# Altium schematic symbol library Lib Marius.SchLib: 259 symbols (part 3 of 3)
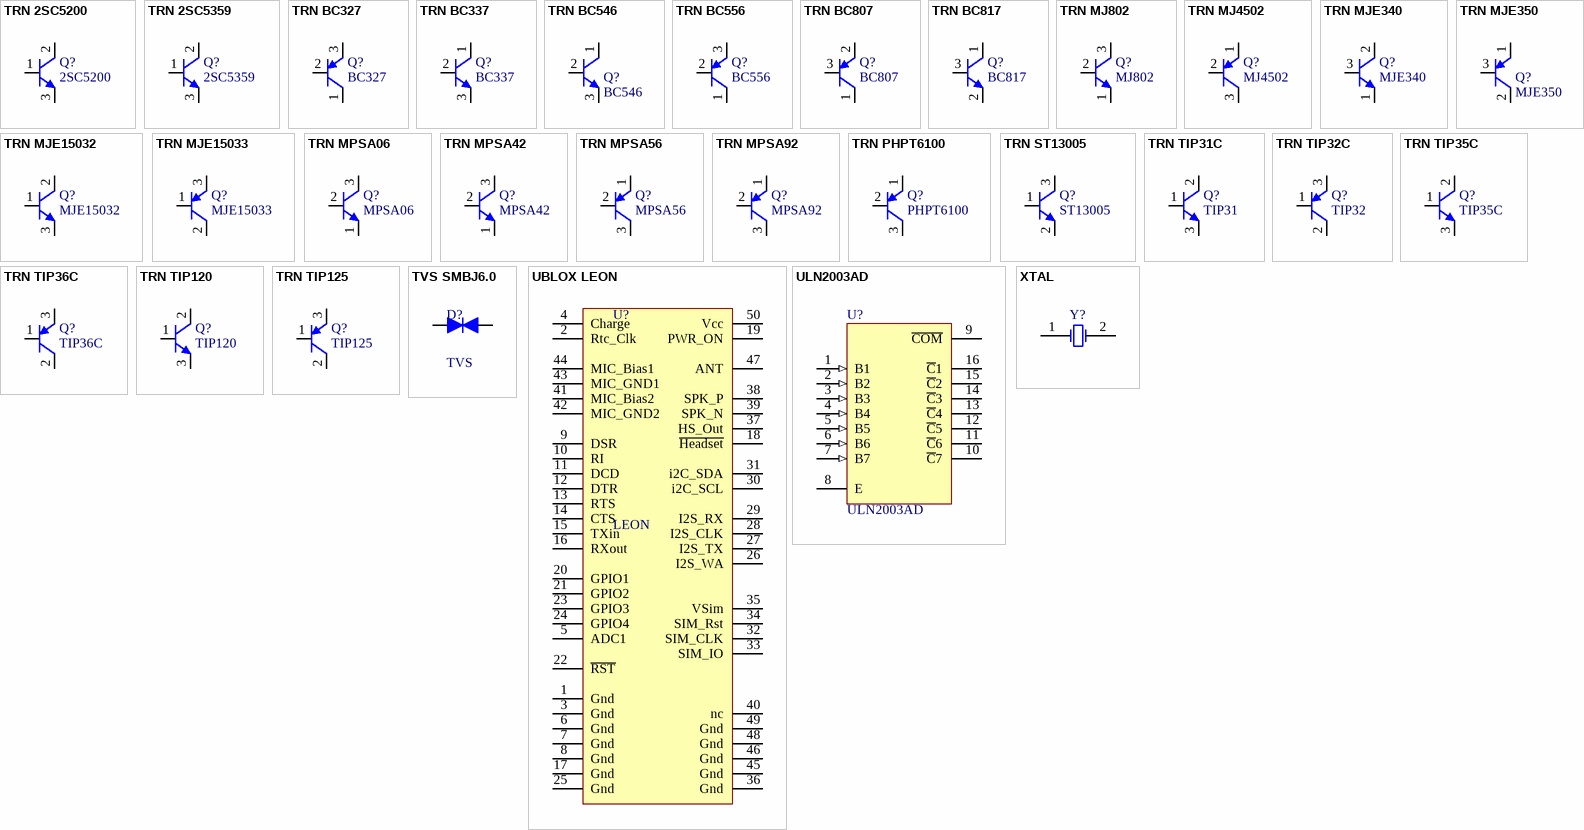
[diagram p8: symbols TRN 2SC5200 to XTAL]

## TRN MJ802
designator Q?, comment MJ802
NPN 100V 30A TO3; PackageReference: TO3; Fairchild: NPN 100V 30A; Supplier 1: Newark; Supplier Part Number 1: 46T9271
footprint TO3 HEATSINK (Oval Flange Mount with (2) Offset Leads; Pin Spacing 10.93 mm; Lead Dia. 1.09 mm (max))
footprint TO3 (Oval Flange Mount with (2) Offset Leads; Pin Spacing 10.93 mm; Lead Dia. 1.09 mm (max))
pins: 1 E, 2 B, 3 C

## TRN MJ4502
designator Q?, comment MJ4502
PNP 100V 30A TO3; PackageReference: TO3; Fairchild: PNP 100V 30A; Supplier 1: Newark; Supplier Part Number 1: 33C5072
footprint TO3 (Oval Flange Mount with (2) Offset Leads; Pin Spacing 10.93 mm; Lead Dia. 1.09 mm (max))
footprint TO3 HEATSINK (Oval Flange Mount with (2) Offset Leads; Pin Spacing 10.93 mm; Lead Dia. 1.09 mm (max))
pins: 1 E, 2 B, 3 C

## TRN MJE340
designator Q?, comment MJE340
NPN 300V 500mA TO126; PackageReference: TO 126; Fairchild: NPN 300V 500mA; Supplier 1: Digi-Key; Supplier Part Number 1: MJE340STU-ND
footprint TO 126 (TO, Thru-Hole, Vertical, Heatsink Mounted; 3 In-Line Leads; Pitch 2.54 mm)
pins: 1 E, 2 C, 3 B

## TRN MJE350
designator Q?, comment MJE350
PNP 300V 500mA TO126; PackageReference: TO 126; Fairchild: PNP 300V 500mA; Supplier 1: Digi-Key; Supplier Part Number 1: MJE350STU-ND
footprint TO 126 (TO, Thru-Hole, Vertical, Heatsink Mounted; 3 In-Line Leads; Pitch 2.54 mm)
pins: 1 E, 2 C, 3 B

## TRN MJE15032
designator Q?, comment MJE15032
NPN 220V 8A TO220; Fairchild: NPN 300V 500mA; PackageReference: TO 126; Supplier 1: Newark; Supplier Part Number 1: 45J1497
footprint TO 220 (TO, Thru-Hole, Vertical, Heatsink Mounted; 3 In-Line Leads; Pitch 2.54 mm)
pins: 1 B, 2 C, 3 E

## TRN MJE15033
designator Q?, comment MJE15033
PNP 220V 8A TO220; Published: 8-Jun-2000; LatestRevisionDate: 29-May-2009; LatestRevisionNote: IPC-7351 Footprint Added.; PackageVersion: Aug-1999; PackageReference: SOT-23B; Publisher: Altium Limited; PackageDescription: 3-Pin SOT-23 Package 0.95 mm Pitch, 2.4 mm Lead Span; Supplier 1: Newark; Supplier Part Number 1: 45J1498
simulation model PNP
signal-integrity model PNP
footprint TO 220 (TO, Thru-Hole, Vertical, Heatsink Mounted; 3 In-Line Leads; Pitch 2.54 mm)
pins: 1 B, 2 C, 3 E

## TRN MPSA06
designator Q?, comment MPSA06
NPN 80V 0.5A TO92; Published: 8-Jun-2000; LatestRevisionDate: 17-Jul-2002; LatestRevisionNote: Re-released for DXP Platform.; PackageReference: SOT23; Publisher: Altium Limited; PackageDescription: TO, Flat Index; 3 In-Line, Axial Leads; Body Dia. 4.8mm; Leads 0.55 x 0.51 mm (max); Supplier 1: Farnell; Supplier Part Number 1: 1924637
simulation model NPN
signal-integrity model NPN
footprint TO 92 (TO, Flat Index; 3 In-Line, Axial Leads; Body Dia. 4.5mm; Leads 0.51 x 0.48 mm (max))
pins: 1 E, 2 B, 3 C

## TRN MPSA42
designator Q?, comment MPSA42
NPN 300V 0.5A TO92; Published: 8-Jun-2000; LatestRevisionDate: 17-Jul-2002; LatestRevisionNote: Re-released for DXP Platform.; PackageReference: SOT23; Publisher: Altium Limited; PackageDescription: TO, Flat Index; 3 In-Line, Axial Leads; Body Dia. 4.8mm; Leads 0.55 x 0.51 mm (max); Supplier 1: Farnell; Supplier Part Number 1: 1273211
simulation model NPN
signal-integrity model NPN
footprint TO 92 (TO, Flat Index; 3 In-Line, Axial Leads; Body Dia. 4.5mm; Leads 0.51 x 0.48 mm (max))
pins: 1 E, 2 B, 3 C

## TRN MPSA56
designator Q?, comment MPSA56
PNP 80V 0.5A TO92; Published: 8-Jun-2000; LatestRevisionDate: 29-May-2009; LatestRevisionNote: IPC-7351 Footprint Added.; PackageVersion: Aug-1999; PackageReference: SOT-23B; Publisher: Altium Limited; PackageDescription: 3-Pin SOT-23 Package 0.95 mm Pitch, 2.4 mm Lead Span; Supplier 1: Mouser; Supplier Part Number 1: 863-MPSA56
simulation model PNP
signal-integrity model PNP
footprint TO 92 (TO, Flat Index; 3 In-Line, Axial Leads; Body Dia. 4.5mm; Leads 0.51 x 0.48 mm (max))
pins: 1 E, 2 B, 3 C

## TRN MPSA92
designator Q?, comment MPSA92
PNP 300V 0.5A TO92; Published: 8-Jun-2000; LatestRevisionDate: 29-May-2009; LatestRevisionNote: IPC-7351 Footprint Added.; PackageVersion: Aug-1999; PackageReference: SOT-23B; Publisher: Altium Limited; PackageDescription: 3-Pin SOT-23 Package 0.95 mm Pitch, 2.4 mm Lead Span; Supplier 1: Farnell; Supplier Part Number 1: 1924638
simulation model PNP
signal-integrity model PNP
footprint TO 92 (TO, Flat Index; 3 In-Line, Axial Leads; Body Dia. 4.5mm; Leads 0.51 x 0.48 mm (max))
pins: 1 E, 2 B, 3 C

## TRN PHPT6100
designator Q?, comment PHPT6100
PNP 100V 2A SOT669; Fairchild: PNP 100V 30A; PackageReference: TO3; Supplier 1: Newark; Supplier Part Number 1: 33C5072
footprint SOT669 (LFPAK65)
pins: 1 E, 2 B, 3 C

## TRN ST13005
designator Q?, comment ST13005
NPN 400V 5A TO220; PackageReference: TO220; Supplier Part Number 1: 511-ST13005
footprint TO 220 (TO, Thru-Hole, Vertical, Heatsink Mounted; 3 In-Line Leads; Pitch 2.54 mm)
pins: 1 B, 2 C, 3 E

## TRN TIP31C
designator Q?, comment TIP31
NPN 100V 3A TO220; Fairchild: NPN 300V 500mA; PackageReference: TO 126; Supplier 1: Newark; Supplier Part Number 1: 45J1497
footprint TO 220 (TO, Thru-Hole, Vertical, Heatsink Mounted; 3 In-Line Leads; Pitch 2.54 mm)
pins: 1 B, 2 C, 3 E

## TRN TIP32C
designator Q?, comment TIP32
PNP 100V 3A TO220; Published: 8-Jun-2000; LatestRevisionDate: 29-May-2009; LatestRevisionNote: IPC-7351 Footprint Added.; PackageVersion: Aug-1999; PackageReference: SOT-23B; Publisher: Altium Limited; PackageDescription: 3-Pin SOT-23 Package 0.95 mm Pitch, 2.4 mm Lead Span; Supplier 1: Newark; Supplier Part Number 1: 45J1498
simulation model PNP
signal-integrity model PNP
footprint TO 220 (TO, Thru-Hole, Vertical, Heatsink Mounted; 3 In-Line Leads; Pitch 2.54 mm)
pins: 1 B, 2 C, 3 E

## TRN TIP35C
designator Q?, comment TIP35C
NPN140V 25A TO247; PackageReference: TO247; Fairchild: NPN 140V 25A; Supplier 1: Newark; Supplier Part Number 1: 37M8187
footprint TO 247 (TO, Thru-Hole, Vertical, Heatsink Mounted; 3 In-Line Leads; Pitch 2.54 mm)
pins: 1 B, 2 C, 3 E

## TRN TIP36C
designator Q?, comment TIP36C
PNP 140V 25A TO247; PackageReference: TO247; Fairchild: PNP 140V 25A; Supplier 1: Farnell; Supplier Part Number 1: 9936130
footprint TO 247 (TO, Thru-Hole, Vertical, Heatsink Mounted; 3 In-Line Leads; Pitch 2.54 mm)
pins: 1 B, 2 C, 3 E

## TRN TIP120
designator Q?, comment TIP120
NPN 60V 5A Darlington; Fairchild: NPN 300V 500mA; PackageReference: TO 126; Supplier 1: Newark; Supplier Part Number 1: 45J1497
footprint TO 220 (TO, Thru-Hole, Vertical, Heatsink Mounted; 3 In-Line Leads; Pitch 2.54 mm)
pins: 1 B, 2 C, 3 E

## TRN TIP125
designator Q?, comment TIP125
PNP 60V 5A Darlington; Published: 8-Jun-2000; LatestRevisionDate: 29-May-2009; LatestRevisionNote: IPC-7351 Footprint Added.; PackageVersion: Aug-1999; PackageReference: SOT-23B; Publisher: Altium Limited; PackageDescription: 3-Pin SOT-23 Package 0.95 mm Pitch, 2.4 mm Lead Span; Supplier 1: Newark; Supplier Part Number 1: 45J1498
simulation model PNP
signal-integrity model PNP
footprint TO 220 (TO, Thru-Hole, Vertical, Heatsink Mounted; 3 In-Line Leads; Pitch 2.54 mm)
pins: 1 B, 2 C, 3 E

## TVS SMBJ6.0
designator D?, comment TVS
Rectifier Diode; Published: 8-Jun-2000; LatestRevisionDate: 17-Jul-2002; LatestRevisionNote: Re-released for DXP Platform.; PackageReference: SMB; Publisher: Altium Limited; PackageDescription: DO-214-AA/SMB; 2 C-Bend Leads; Body 5.3 x 3.6 mm, inc. leads (LxW); Code_JEDEC: DO-214-AA
simulation model SKYDIODE (Diode)
signal-integrity model D Schottky
footprint DO-214AA-B (Diode, 2-Leads, Body 4.3x3.6mm, IPC Medium Density)
footprint DIODE 7MM Vert (Diode, Thru-Hole; 2 Leads; 0.4 in Pin Spacing)
pins: 1, 2

## UBLOX LEON
designator U?, comment LEON
UBLOX LEON GSM Module; LatestRevisionDate: 17-Jul-2002; LatestRevisionNote: Re-released for DXP Platform.; Publisher: Altium Limited
signal-integrity model Connector
footprint UBLOX LEON100 (UBLOX GSM Module)
pins: 1 Gnd, 2 Rtc_Clk, 3 Gnd, 4 Charge, 5 ADC1, 6 Gnd, 7 Gnd, 8 Gnd, 9 DSR, 10 RI, 11 DCD, 12 DTR, 13 RTS, 14 CTS, 15 TXin, 16 RXout, 17 Gnd, 18 ~{Headset}, 19 PWR_ON, 20 GPIO1, 21 GPIO2, 22 ~{RST}, 23 GPIO3, 24 GPIO4, 25 Gnd, 26 I2S_WA, 27 I2S_TX, 28 I2S_CLK, 29 I2S_RX, 30 i2C_SCL, 31 i2C_SDA, 32 SIM_CLK, 33 SIM_IO, 34 SIM_Rst, 35 VSim, 36 Gnd, 37 HS_Out, 38 SPK_P, 39 SPK_N, 40 nc, 41 MIC_Bias2, 42 MIC_GND2, 43 MIC_GND1, 44 MIC_Bias1, 45 Gnd, 46 Gnd, 47 ANT, 48 Gnd, 49 Gnd, 50 Vcc

## ULN2003AD
designator U?
Darlington Transistor Array; Published: 15-May-2002; LatestRevisionDate: 13-Apr-2006; LatestRevisionNote: IPC-7351 Footprint Added.; DatasheetVersion: Sep-1986; PackageVersion: Jan-1998; PackageReference: D016; Publisher: Altium Limited; PackageDescription: 16-Pin Small Outline Integrated Circuit 1.27 mm Pitch; Code_IPC: SOIC127P600-16; ComponentLink1Description: Manufacturer Link; ComponentLink1URL: http://www.ti.com/; ComponentLink2Description: Datasheet; ComponentLink2URL: http://www-s.ti.com/sc/ds/uln2002a.pdf
footprint DIP-16 (DIP; 16 Leads; Row Spacing 7.62 mm; Pitch 2.54 mm)
footprint SOIC 16 (SOIC, 16-Leads, Body 10.0x4.0mm (max), Pitch 1.27mm, IPC Medium Density)
pins: 1 B1 (in), 2 B2 (in), 3 B3 (in), 4 B4 (in), 5 B5 (in), 6 B6 (in), 7 B7 (in), 8 E (power), 9 ~{COM}, 10 ~{C}7 (oc), 11 ~{C}6 (oc), 12 ~{C}5 (oc), 13 ~{C}4 (oc), 14 ~{C}3 (oc), 15 ~{C}2 (oc), 16 ~{C}1 (oc)

## XTAL
designator Y?
Crystal Oscillator; Published: 8-Jun-2000; LatestRevisionDate: 17-Jul-2002; LatestRevisionNote: Re-released for DXP Platform.; PackageReference: R38; Publisher: Altium Limited; PackageDescription: Crystal, Thru-Hole; 2 Leads; Body 3.1 x 8.2 mm (Dia.xH)
simulation model XTAL (Spice Subcircuit)
footprint XTAL (Crystal, HC49, SMD & PTH Dual footprint)
pins: 1 OSC1, 2 OSC2